# Altium integrated library NSC Amplifier.IntLib: 719 symbols (part 15 of 19)
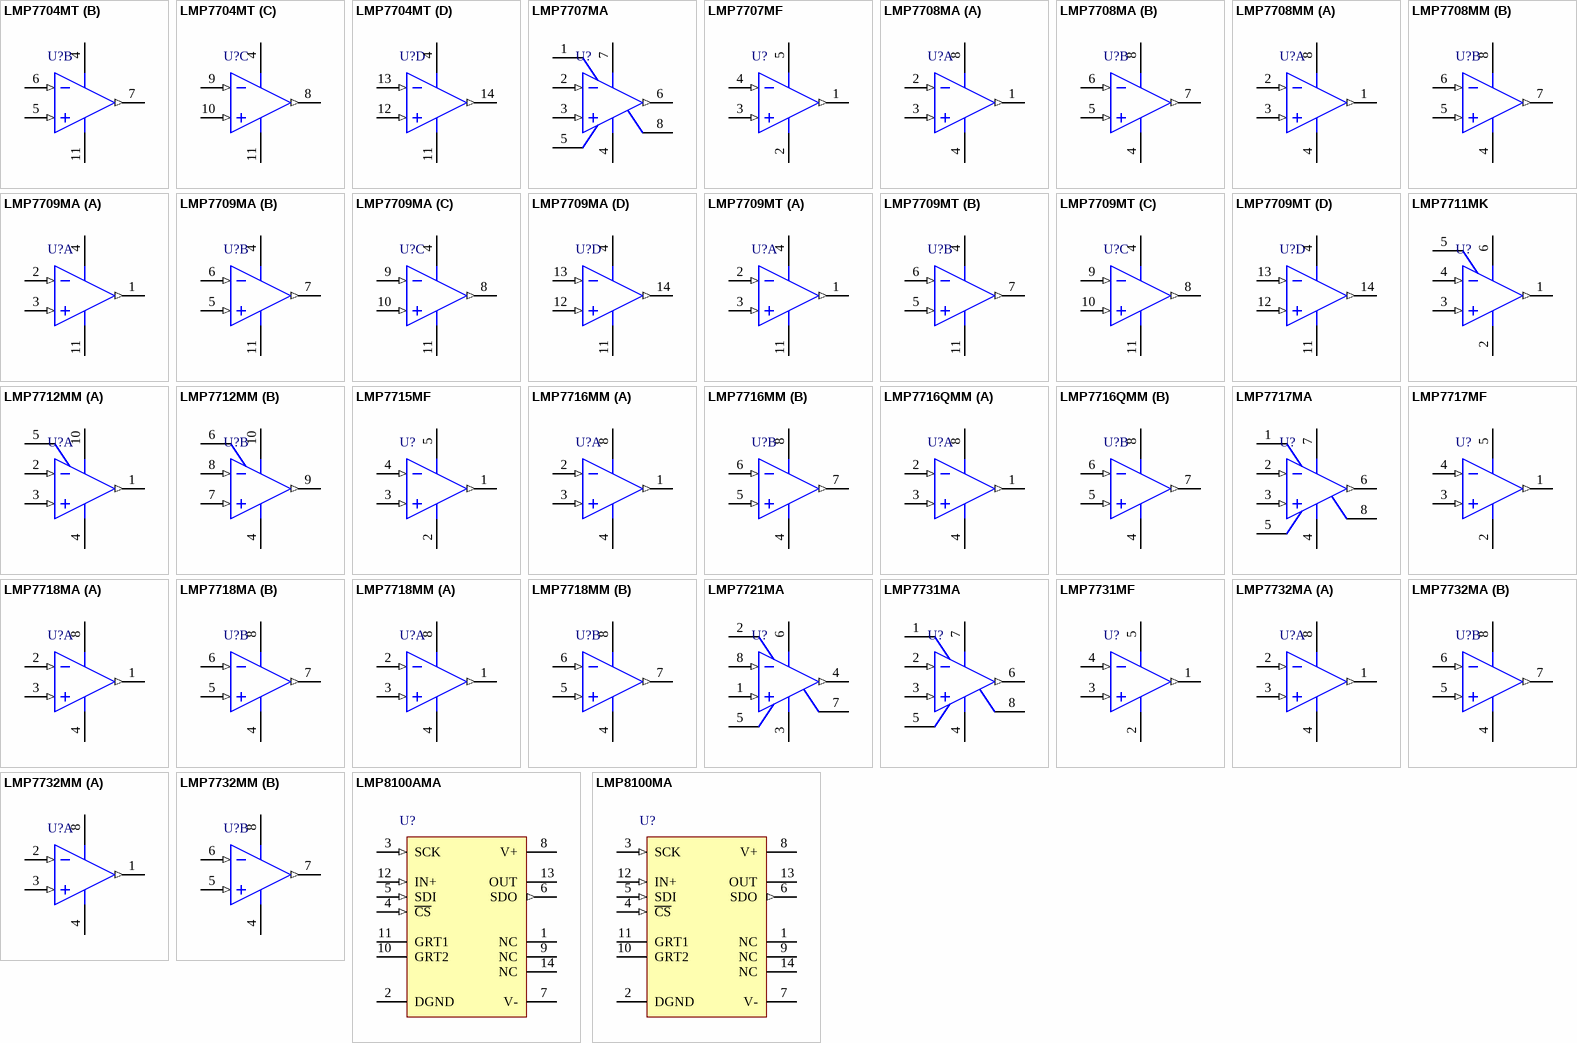
[diagram p52: symbols LMP7704MT to LMP8100MA]

## LMP7707MF
designator U?
Precision, CMOS Input, RRIO, Wide Supply Range Decompensated Amplifier; PartNumber: LMP7707MF; Manufacturer: National Semiconductor; CompType: Amplifiers; PackageTopMarking: AH4A*XTT; Published: 4-Dec-2008; LatestRevisionDate: 13-Jan-2009; LatestRevisionNote: Sim Model Added.; DatasheetVersion: Jul-2008; PackageVersion: revD, Aug-2008; PackageReference: MF05A; Publisher: Altium Limited; PackageDescription: Molded SOT-23, .115 x .063 x .040 in Body, 5 Lead, .0375 in Pitch; RoHS: Y; PinCount: 5; DigiKeyPartNumber: LMP7707MFCT-ND; Code_IPC: SOT23-5; ComponentLink1Description: LMP7707 Datasheet; ComponentLink1URL: http://www.national.com/ds/LM/LMP7707.pdf; ComponentLink2Description: LMP7707 Web Page; ComponentLink2URL: http://www.national.com/pf/LM/LMP7707.html; ComponentLink3Description: MF05A Package Page; ComponentLink3URL: http://www.national.com/packaging/folders/mf05a.html
footprint MF05A_N (SOT23, 5-Leads, Body 2.9x1.6mm, Pitch 0.95mm, Lead Span 2.8mm, IPC Medium Density)
footprint MF05A_L (SOT23, 5-Leads, Body 2.9x1.6mm, Pitch 0.95mm, Lead Span 2.8mm, IPC High Density)
footprint MF05A_M (SOT23, 5-Leads, Body 2.9x1.6mm, Pitch 0.95mm, Lead Span 2.8mm, IPC Low Density)
simulation model LMP7707 (SUBCKT)
pins: 1 OUT (out), 2 V- (power), 3 IN+ (in), 4 IN- (in), 5 V+ (power)

## LMP7708MA
designator U?
Precision, CMOS Input, RRIO, Wide Supply Range Decompensated Amplifier; PartNumber: LMP7708MA; Manufacturer: National Semiconductor; CompType: Amplifiers; PackageTopMarking: NSZXTT*LMP77*08MA; Published: 4-Dec-2008; LatestRevisionDate: 13-Jan-2009; LatestRevisionNote: Sim Model Added.; DatasheetVersion: Jul-2008; PackageVersion: revL, Sep-2006; PackageReference: M08A; Publisher: Altium Limited; PackageDescription: SOIC Narrow, 4.9 x 3.9 x 1.45mm, 8 Lead, 1.27mm Pitch; RoHS: Y; PinCount: 8; Code_JEDEC: MS-012-AA; Code_IPC: SOIC127P600-8; ComponentLink1Description: LMP7708 Datasheet; ComponentLink1URL: http://www.national.com/ds/LM/LMP7708.pdf; ComponentLink2Description: LMP7708 Web Page; ComponentLink2URL: http://www.national.com/pf/LM/LMP7708.html; ComponentLink3Description: M08A Package Page; ComponentLink3URL: http://www.national.com/packaging/folders/m08a.html
footprint M08A_N (SOIC, 8-Leads, Body 4.9x3.9mm, Pitch 1.27mm, IPC Medium Density)
footprint M08A_L (SOIC, 8-Leads, Body 4.9x3.9mm, Pitch 1.27mm, IPC High Density)
footprint M08A_M (SOIC, 8-Leads, Body 4.9x3.9mm, Pitch 1.27mm, IPC Low Density)
simulation model LMP7708 (SUBCKT)
pins on every part: 4 V- (power), 8 V+ (power)
part A pins: 1 OUTA (out), 2 INA- (in), 3 INA+ (in)
part B pins: 5 INB+ (in), 6 INB- (in), 7 OUTB (out)

## LMP7708MM
designator U?
Precision, CMOS Input, RRIO, Wide Supply Range Decompensated Amplifier; PartNumber: LMP7708MM; Manufacturer: National Semiconductor; CompType: Amplifiers; PackageTopMarking: ZXTT*AJ4A; Published: 4-Dec-2008; LatestRevisionDate: 13-Jan-2009; LatestRevisionNote: Sim Model Added.; DatasheetVersion: Jul-2008; PackageVersion: revF, Apr-2008; PackageReference: MUA08A; Publisher: Altium Limited; PackageDescription: MINI SOIC, .118 x .118 x .034in, 8 Lead, .0256in Pitch; RoHS: Y; PinCount: 8; DigiKeyPartNumber: LMP7708MMCT-ND; Code_JEDEC: MO-187-AA; ComponentLink1Description: LMP7708 Datasheet; ComponentLink1URL: http://www.national.com/ds/LM/LMP7708.pdf; ComponentLink2Description: LMP7708 Web Page; ComponentLink2URL: http://www.national.com/pf/LM/LMP7708.html; ComponentLink3Description: MUA08A Package Page; ComponentLink3URL: http://www.national.com/packaging/folders/mua08a.html
footprint MUA08A_N (TSOP, 8-Leads, Body 3x3mm, Pitch 0.65mm, IPC Medium Density)
footprint MUA08A_L (TSOP, 8-Leads, Body 3x3mm, Pitch 0.65mm, IPC High Density)
footprint MUA08A_M (TSOP, 8-Leads, Body 3x3mm, Pitch 0.65mm, IPC Low Density)
simulation model LMP7708 (SUBCKT)
pins on every part: 4 V- (power), 8 V+ (power)
part A pins: 1 OUTA (out), 2 INA- (in), 3 INA+ (in)
part B pins: 5 INB+ (in), 6 INB- (in), 7 OUTB (out)

## LMP7709MA
designator U?
Precision, CMOS Input, RRIO, Wide Supply Range Decompensated Amplifier; PartNumber: LMP7709MA; Manufacturer: National Semiconductor; CompType: Amplifiers; PackageTopMarking: NSUZXYTT*LMP7709*MA; Published: 4-Dec-2008; LatestRevisionDate: 13-Jan-2009; LatestRevisionNote: Sim Model Added.; DatasheetVersion: Jul-2008; PackageVersion: revJ, Jan-1996; PackageReference: M14A; Publisher: Altium Limited; PackageDescription: Molded Package S.O., .150in Wide, 14 Lead; RoHS: Y; PinCount: 14; Code_JEDEC: MS-012AB; Code_IPC: SOIC127P600-14; ComponentLink1Description: LMP7709 Datasheet; ComponentLink1URL: http://www.national.com/ds/LM/LMP7709.pdf; ComponentLink2Description: LMP7709 Web Page; ComponentLink2URL: http://www.national.com/pf/LM/LMP7709.html; ComponentLink3Description: M14A Package Page; ComponentLink3URL: http://www.national.com/packaging/folders/m14a.html
footprint M14A_N (SOIC, 14-Leads, Body 8.6x3.9mm, Pitch 1.27mm, IPC Medium Density)
footprint M14A_L (SOIC, 14-Leads, Body 8.6x3.9mm, Pitch 1.27mm, IPC High Density)
footprint M14A_M (SOIC, 14-Leads, Body 8.6x3.9mm, Pitch 1.27mm, IPC Low Density)
simulation model LMP7709 (SUBCKT)
pins on every part: 4 V+ (power), 11 V- (power)
part A pins: 1 OUTA (out), 2 INA- (in), 3 INA+ (in)
part B pins: 5 INB+ (in), 6 INB- (in), 7 OUTB (out)
part C pins: 8 OUTC (out), 9 INC- (in), 10 INC+ (in)
part D pins: 12 IND+ (in), 13 IND- (in), 14 OUTD (out)

## LMP7709MT
designator U?
Precision, CMOS Input, RRIO, Wide Supply Range Decompensated Amplifier; PartNumber: LMP7709MT; Manufacturer: National Semiconductor; CompType: Amplifiers; PackageTopMarking: NSUZXYTT*LMP77*09MT; Published: 4-Dec-2008; LatestRevisionDate: 13-Jan-2009; LatestRevisionNote: Sim Model Added.; DatasheetVersion: Jul-2008; PackageVersion: revD, Jun-2003; PackageReference: MTC14; Publisher: Altium Limited; PackageDescription: Molded TSSOP, JEDEC, 5 x 4.4 x 0.9mm Body, 14 Lead, 0.65mm Pitch; RoHS: Y; PinCount: 14; DigiKeyPartNumber: LMP7709MT-ND; Code_JEDEC: MO-153-AB-1; ComponentLink1Description: LMP7709 Datasheet; ComponentLink1URL: http://www.national.com/ds/LM/LMP7709.pdf; ComponentLink2Description: LMP7709 Web Page; ComponentLink2URL: http://www.national.com/pf/LM/LMP7709.html; ComponentLink3Description: MTC14 Package Page; ComponentLink3URL: http://www.national.com/packaging/folders/mtc14.html
footprint MTC14_N (TSOP, 14-Leads, Body 5x4.4mm, Pitch 0.65mm, IPC Medium Density)
footprint MTC14_L (TSOP, 14-Leads, Body 5x4.4mm, Pitch 0.65mm, IPC High Density)
footprint MTC14_M (TSOP, 14-Leads, Body 5x4.4mm, Pitch 0.65mm, IPC Low Density)
simulation model LMP7709 (SUBCKT)
pins on every part: 4 V+ (power), 11 V- (power)
part A pins: 1 OUTA (out), 2 INA- (in), 3 INA+ (in)
part B pins: 5 INB+ (in), 6 INB- (in), 7 OUTB (out)
part C pins: 8 OUTC (out), 9 INC- (in), 10 INC+ (in)
part D pins: 12 IND+ (in), 13 IND- (in), 14 OUTD (out)

## LMP7711MK
designator U?
Single Precision, 17 MHz, Low Noise, CMOS Input Amplifier; PartNumber: LMP7711MK; Manufacturer: National Semiconductor; CompType: Amplifiers; PackageTopMarking: AC3A*XTT; Published: 4-Dec-2008; LatestRevisionDate: 13-Jan-2009; LatestRevisionNote: Sim Model Added.; DatasheetVersion: Jul-2008; PackageVersion: revD, Jul-2005; PackageReference: MK06A; Publisher: Altium Limited; PackageDescription: Molded TSOT, 2.97 x 1.65 x 0.87mm Body, 6 Lead, 0.95mm Pitch; RoHS: Y; PinCount: 6; DigiKeyPartNumber: LMP7711MKCT-ND; Code_JEDEC: MO-193-AA; Code_IPC: SOT26A-6; ComponentLink1Description: LMP7711 Datasheet; ComponentLink1URL: http://www.national.com/ds/LM/LMP7711.pdf; ComponentLink2Description: LMP7711 Web Page; ComponentLink2URL: http://www.national.com/pf/LM/LMP7711.html; ComponentLink3Description: MK06A Package Page; ComponentLink3URL: http://www.national.com/packaging/folders/mk06a.html
footprint MK06A_N (SOT23, 6-Leads, Body 3.0x1.7mm, Pitch 0.95mm, Lead Span 2.9mm, IPC Medium Density)
footprint MK06A_L (SOT23, 6-Leads, Body 3.0x1.7mm, Pitch 0.95mm, Lead Span 2.9mm, IPC High Density)
footprint MK06A_M (SOT23, 6-Leads, Body 3.0x1.7mm, Pitch 0.95mm, Lead Span 2.9mm, IPC Low Density)
simulation model LMP7711 (SUBCKT)
pins: 1 OUT (out), 2 V- (power), 3 IN+ (in), 4 IN- (in), 5 EN, 6 V+ (power)

## LMP7712MM
designator U?
Dual Precision, 17 MHz, Low Noise, CMOS Input Amplifier; PartNumber: LMP7712MM; Manufacturer: National Semiconductor; CompType: Amplifiers; PackageTopMarking: ZXTT*AD3A; Published: 4-Dec-2008; LatestRevisionDate: 13-Jan-2009; LatestRevisionNote: Sim Model Added.; DatasheetVersion: Jul-2008; PackageVersion: revB, Jul-2003; PackageReference: MUB10A; Publisher: Altium Limited; PackageDescription: Mini-SO, Molded, .118 x .118 x .034in Body, 10 Lead, .0197in Pitch; RoHS: Y; PinCount: 10; DigiKeyPartNumber: LMP7712MMCT-ND; Code_JEDEC: MO-187-BA; ComponentLink1Description: LMP7712 Datasheet; ComponentLink1URL: http://www.national.com/ds/LM/LMP7712.pdf; ComponentLink2Description: LMP7712 Web Page; ComponentLink2URL: http://www.national.com/pf/LM/LMP7712.html; ComponentLink3Description: MUB10A Package Page; ComponentLink3URL: http://www.national.com/packaging/folders/mub10a.html
footprint MUB10A_N (TSSOP, 10-Leads, Body 3x3mm, Pitch 0.5mm, IPC Medium Density)
footprint MUB10A_L (TSSOP, 10-Leads, Body 3x3mm, Pitch 0.5mm, IPC High Density)
footprint MUB10A_M (TSSOP, 10-Leads, Body 3x3mm, Pitch 0.5mm, IPC Low Density)
simulation model LMP7712 (SUBCKT)
pins on every part: 4 V- (power), 10 V+ (power)
part A pins: 1 OUTA (out), 2 INA- (in), 3 INA+ (in), 5 ENA
part B pins: 6 ENB, 7 INB+ (in), 8 INB- (in), 9 OUTB (out)

## LMP7715MF
designator U?
Single Precision, 17 MHz, Low Noise, CMOS Input Amplifier; PartNumber: LMP7715MF; Manufacturer: National Semiconductor; CompType: Amplifiers; PackageTopMarking: AV3A*XTT; Published: 4-Dec-2008; LatestRevisionDate: 13-Jan-2009; LatestRevisionNote: Sim Model Added.; DatasheetVersion: Aug-2008; PackageVersion: revD, Aug-2008; PackageReference: MF05A; Publisher: Altium Limited; PackageDescription: Molded SOT-23, .115 x .063 x .040 in Body, 5 Lead, .0375 in Pitch; RoHS: Y; PinCount: 5; DigiKeyPartNumber: LMP7715MFCT-ND; Code_IPC: SOT23-5; ComponentLink1Description: LMP7715 Datasheet; ComponentLink1URL: http://www.national.com/ds/LM/LMP7715.pdf; ComponentLink2Description: LMP7715 Web Page; ComponentLink2URL: http://www.national.com/pf/LM/LMP7715.html; ComponentLink3Description: MF05A Package Page; ComponentLink3URL: http://www.national.com/packaging/folders/mf05a.html
footprint MF05A_N (SOT23, 5-Leads, Body 2.9x1.6mm, Pitch 0.95mm, Lead Span 2.8mm, IPC Medium Density)
footprint MF05A_L (SOT23, 5-Leads, Body 2.9x1.6mm, Pitch 0.95mm, Lead Span 2.8mm, IPC High Density)
footprint MF05A_M (SOT23, 5-Leads, Body 2.9x1.6mm, Pitch 0.95mm, Lead Span 2.8mm, IPC Low Density)
simulation model LMP7715 (SUBCKT)
pins: 1 OUT (out), 2 V- (power), 3 IN+ (in), 4 IN- (in), 5 V+ (power)

## LMP7716MM
designator U?
Dual Precision, 17 MHz, Low Noise, CMOS Input Amplifier; PartNumber: LMP7716MM; Manufacturer: National Semiconductor; CompType: Amplifiers; PackageTopMarking: ZXTT*AX3A; Published: 4-Dec-2008; LatestRevisionDate: 13-Jan-2009; LatestRevisionNote: Sim Model Added.; DatasheetVersion: Aug-2008; PackageVersion: revF, Apr-2008; PackageReference: MUA08A; Publisher: Altium Limited; PackageDescription: MINI SOIC, .118 x .118 x .034in, 8 Lead, .0256in Pitch; RoHS: Y; PinCount: 8; DigiKeyPartNumber: LMP7716MMCT-ND; Code_JEDEC: MO-187-AA; ComponentLink1Description: LMP7716 Datasheet; ComponentLink1URL: http://www.national.com/ds/LM/LMP7716.pdf; ComponentLink2Description: LMP7716 Web Page; ComponentLink2URL: http://www.national.com/pf/LM/LMP7716.html; ComponentLink3Description: MUA08A Package Page; ComponentLink3URL: http://www.national.com/packaging/folders/mua08a.html
footprint MUA08A_N (TSOP, 8-Leads, Body 3x3mm, Pitch 0.65mm, IPC Medium Density)
footprint MUA08A_L (TSOP, 8-Leads, Body 3x3mm, Pitch 0.65mm, IPC High Density)
footprint MUA08A_M (TSOP, 8-Leads, Body 3x3mm, Pitch 0.65mm, IPC Low Density)
simulation model LMP7716 (SUBCKT)
pins on every part: 4 V- (power), 8 V+ (power)
part A pins: 1 OUTA (out), 2 INA- (in), 3 INA+ (in)
part B pins: 5 INB+ (in), 6 INB- (in), 7 OUTB (out)

## LMP7716QMM
designator U?
Dual Precision, 17 MHz, Low Noise, CMOS Input Amplifier; PartNumber: LMP7716QMM; Manufacturer: National Semiconductor; CompType: Amplifiers; PackageTopMarking: ZXTT*AR5A; Published: 4-Dec-2008; LatestRevisionDate: 13-Jan-2009; LatestRevisionNote: Sim Model Added.; DatasheetVersion: Aug-2008; PackageVersion: revF, Apr-2008; PackageReference: MUA08A; Publisher: Altium Limited; PackageDescription: MINI SOIC, .118 x .118 x .034in, 8 Lead, .0256in Pitch; RoHS: Y; PinCount: 8; Code_JEDEC: MO-187-AA; ComponentLink1Description: LMP7716 Datasheet; ComponentLink1URL: http://www.national.com/ds/LM/LMP7716.pdf; ComponentLink2Description: LMP7716 Web Page; ComponentLink2URL: http://www.national.com/pf/LM/LMP7716.html; ComponentLink3Description: MUA08A Package Page; ComponentLink3URL: http://www.national.com/packaging/folders/mua08a.html
footprint MUA08A_N (TSOP, 8-Leads, Body 3x3mm, Pitch 0.65mm, IPC Medium Density)
footprint MUA08A_L (TSOP, 8-Leads, Body 3x3mm, Pitch 0.65mm, IPC High Density)
footprint MUA08A_M (TSOP, 8-Leads, Body 3x3mm, Pitch 0.65mm, IPC Low Density)
simulation model LMP7716 (SUBCKT)
pins on every part: 4 V- (power), 8 V+ (power)
part A pins: 1 OUTA (out), 2 INA- (in), 3 INA+ (in)
part B pins: 5 INB+ (in), 6 INB- (in), 7 OUTB (out)

## LMP7717MA
designator U?
88 MHz, Precision, Low Noise, 1.8V CMOS Input, Decompensated Operational Amplifier; PartNumber: LMP7717MA; Manufacturer: National Semiconductor; CompType: Amplifiers; PackageTopMarking: NSZXTT*LMP77*17MA; Published: 4-Dec-2008; LatestRevisionDate: 13-Jan-2009; LatestRevisionNote: Sim Model Added.; DatasheetVersion: Aug-2008; PackageVersion: revL, Sep-2006; PackageReference: M08A; Publisher: Altium Limited; PackageDescription: SOIC Narrow, 4.9 x 3.9 x 1.45mm, 8 Lead, 1.27mm Pitch; RoHS: Y; PinCount: 8; DigiKeyPartNumber: LMP7717MA-ND; Code_JEDEC: MS-012-AA; Code_IPC: SOIC127P600-8; ComponentLink1Description: LMP7717 Datasheet; ComponentLink1URL: http://www.national.com/ds/LM/LMP7717.pdf; ComponentLink2Description: LMP7717 Web Page; ComponentLink2URL: http://www.national.com/pf/LM/LMP7717.html; ComponentLink3Description: M08A Package Page; ComponentLink3URL: http://www.national.com/packaging/folders/m08a.html
footprint M08A_N (SOIC, 8-Leads, Body 4.9x3.9mm, Pitch 1.27mm, IPC Medium Density)
footprint M08A_L (SOIC, 8-Leads, Body 4.9x3.9mm, Pitch 1.27mm, IPC High Density)
footprint M08A_M (SOIC, 8-Leads, Body 4.9x3.9mm, Pitch 1.27mm, IPC Low Density)
simulation model LMP7717 (SUBCKT)
pins: 1 NC, 2 IN- (in), 3 IN+ (in), 4 V- (power), 5 NC, 6 OUT (out), 7 V+ (power), 8 NC

## LMP7717MF
designator U?
88 MHz, Precision, Low Noise, 1.8V CMOS Input, Decompensated Operational Amplifier; PartNumber: LMP7717MF; Manufacturer: National Semiconductor; CompType: Amplifiers; PackageTopMarking: AT4A*XTT; Published: 4-Dec-2008; LatestRevisionDate: 13-Jan-2009; LatestRevisionNote: Sim Model Added.; DatasheetVersion: Aug-2008; PackageVersion: revD, Aug-2008; PackageReference: MF05A; Publisher: Altium Limited; PackageDescription: Molded SOT-23, .115 x .063 x .040 in Body, 5 Lead, .0375 in Pitch; RoHS: Y; PinCount: 5; DigiKeyPartNumber: LMP7717MFCT-ND; Code_IPC: SOT23-5; ComponentLink1Description: LMP7717 Datasheet; ComponentLink1URL: http://www.national.com/ds/LM/LMP7717.pdf; ComponentLink2Description: LMP7717 Web Page; ComponentLink2URL: http://www.national.com/pf/LM/LMP7717.html; ComponentLink3Description: MF05A Package Page; ComponentLink3URL: http://www.national.com/packaging/folders/mf05a.html
footprint MF05A_N (SOT23, 5-Leads, Body 2.9x1.6mm, Pitch 0.95mm, Lead Span 2.8mm, IPC Medium Density)
footprint MF05A_L (SOT23, 5-Leads, Body 2.9x1.6mm, Pitch 0.95mm, Lead Span 2.8mm, IPC High Density)
footprint MF05A_M (SOT23, 5-Leads, Body 2.9x1.6mm, Pitch 0.95mm, Lead Span 2.8mm, IPC Low Density)
simulation model LMP7717 (SUBCKT)
pins: 1 OUT (out), 2 V- (power), 3 IN+ (in), 4 IN- (in), 5 V+ (power)

## LMP7718MA
designator U?
88 MHz, Precision, Low Noise, 1.8V CMOS Input, Decompensated Operational Amplifier; PartNumber: LMP7718MA; Manufacturer: National Semiconductor; CompType: Amplifiers; PackageTopMarking: NSZXTT*LMP77*18MA; Published: 4-Dec-2008; LatestRevisionDate: 13-Jan-2009; LatestRevisionNote: Sim Model Added.; DatasheetVersion: Aug-2008; PackageVersion: revL, Sep-2006; PackageReference: M08A; Publisher: Altium Limited; PackageDescription: SOIC Narrow, 4.9 x 3.9 x 1.45mm, 8 Lead, 1.27mm Pitch; RoHS: Y; PinCount: 8; DigiKeyPartNumber: LMP7718MAX-ND; Code_JEDEC: MS-012-AA; Code_IPC: SOIC127P600-8; ComponentLink1Description: LMP7718 Datasheet; ComponentLink1URL: http://www.national.com/ds/LM/LMP7718.pdf; ComponentLink2Description: LMP7718 Web Page; ComponentLink2URL: http://www.national.com/pf/LM/LMP7718.html; ComponentLink3Description: M08A Package Page; ComponentLink3URL: http://www.national.com/packaging/folders/m08a.html
footprint M08A_N (SOIC, 8-Leads, Body 4.9x3.9mm, Pitch 1.27mm, IPC Medium Density)
footprint M08A_L (SOIC, 8-Leads, Body 4.9x3.9mm, Pitch 1.27mm, IPC High Density)
footprint M08A_M (SOIC, 8-Leads, Body 4.9x3.9mm, Pitch 1.27mm, IPC Low Density)
simulation model LMP7718 (SUBCKT)
pins on every part: 4 V- (power), 8 V+ (power)
part A pins: 1 OUTA (out), 2 INA- (in), 3 INA+ (in)
part B pins: 5 INB+ (in), 6 INB- (in), 7 OUTB (out)

## LMP7718MM
designator U?
88 MHz, Precision, Low Noise, 1.8V CMOS Input, Decompensated Operational Amplifier; PartNumber: LMP7718MM; Manufacturer: National Semiconductor; CompType: Amplifiers; PackageTopMarking: ZXTT*AP4A; Published: 4-Dec-2008; LatestRevisionDate: 13-Jan-2009; LatestRevisionNote: Sim Model Added.; DatasheetVersion: Aug-2008; PackageVersion: revF, Apr-2008; PackageReference: MUA08A; Publisher: Altium Limited; PackageDescription: MINI SOIC, .118 x .118 x .034in, 8 Lead, .0256in Pitch; RoHS: Y; PinCount: 8; DigiKeyPartNumber: LMP7718MMCT-ND; Code_JEDEC: MO-187-AA; ComponentLink1Description: LMP7718 Datasheet; ComponentLink1URL: http://www.national.com/ds/LM/LMP7718.pdf; ComponentLink2Description: LMP7718 Web Page; ComponentLink2URL: http://www.national.com/pf/LM/LMP7718.html; ComponentLink3Description: MUA08A Package Page; ComponentLink3URL: http://www.national.com/packaging/folders/mua08a.html
footprint MUA08A_N (TSOP, 8-Leads, Body 3x3mm, Pitch 0.65mm, IPC Medium Density)
footprint MUA08A_L (TSOP, 8-Leads, Body 3x3mm, Pitch 0.65mm, IPC High Density)
footprint MUA08A_M (TSOP, 8-Leads, Body 3x3mm, Pitch 0.65mm, IPC Low Density)
simulation model LMP7718 (SUBCKT)
pins on every part: 4 V- (power), 8 V+ (power)
part A pins: 1 OUTA (out), 2 INA- (in), 3 INA+ (in)
part B pins: 5 INB+ (in), 6 INB- (in), 7 OUTB (out)

## LMP7721MA
designator U?
3 Femtoampere Input Bias Current Precision Amplifier; PartNumber: LMP7721MA; Manufacturer: National Semiconductor; CompType: Amplifiers; PackageTopMarking: NSZXTT*LMP77*21MA; Published: 4-Dec-2008; DatasheetVersion: Mar-2008; PackageVersion: revL, Sep-2006; PackageReference: M08A; Publisher: Altium Limited; PackageDescription: SOIC Narrow, 4.9 x 3.9 x 1.45mm, 8 Lead, 1.27mm Pitch; RoHS: Y; PinCount: 8; DigiKeyPartNumber: LMP7721MAX-ND; Code_JEDEC: MS-012-AA; Code_IPC: SOIC127P600-8; ComponentLink1Description: LMP7721 Datasheet; ComponentLink1URL: http://www.national.com/ds/LM/LMP7721.pdf; ComponentLink2Description: LMP7721 Web Page; ComponentLink2URL: http://www.national.com/pf/LM/LMP7721.html; ComponentLink3Description: M08A Package Page; ComponentLink3URL: http://www.national.com/packaging/folders/m08a.html
footprint M08A_N (SOIC, 8-Leads, Body 4.9x3.9mm, Pitch 1.27mm, IPC Medium Density)
footprint M08A_L (SOIC, 8-Leads, Body 4.9x3.9mm, Pitch 1.27mm, IPC High Density)
footprint M08A_M (SOIC, 8-Leads, Body 4.9x3.9mm, Pitch 1.27mm, IPC Low Density)
pins: 1 IN+ (in), 2 NC, 3 V- (power), 4 OUT (out), 5 NC, 6 V+ (power), 7 NC, 8 IN- (in)

## LMP7731MA
designator U?
2.9 nV/sqrt(Hz) Low Noise, Precision , RRIO Amplifier; PartNumber: LMP7731MA; Manufacturer: National Semiconductor; CompType: Amplifiers; PackageTopMarking: NSZXTT*LMP77*31MA; Published: 4-Dec-2008; LatestRevisionDate: 13-Jan-2009; LatestRevisionNote: Sim Model Added.; DatasheetVersion: Jun-2008; PackageVersion: revL, Sep-2006; PackageReference: M08A; Publisher: Altium Limited; PackageDescription: SOIC Narrow, 4.9 x 3.9 x 1.45mm, 8 Lead, 1.27mm Pitch; RoHS: Y; PinCount: 8; Code_JEDEC: MS-012-AA; Code_IPC: SOIC127P600-8; ComponentLink1Description: LMP7731 Datasheet; ComponentLink1URL: http://www.national.com/ds/LM/LMP7731.pdf; ComponentLink2Description: LMP7731 Web Page; ComponentLink2URL: http://www.national.com/pf/LM/LMP7731.html; ComponentLink3Description: M08A Package Page; ComponentLink3URL: http://www.national.com/packaging/folders/m08a.html
footprint M08A_N (SOIC, 8-Leads, Body 4.9x3.9mm, Pitch 1.27mm, IPC Medium Density)
footprint M08A_L (SOIC, 8-Leads, Body 4.9x3.9mm, Pitch 1.27mm, IPC High Density)
footprint M08A_M (SOIC, 8-Leads, Body 4.9x3.9mm, Pitch 1.27mm, IPC Low Density)
simulation model LMP7731 (SUBCKT)
pins: 1 NC, 2 IN- (in), 3 IN+ (in), 4 V- (power), 5 NC, 6 OUT (out), 7 V+ (power), 8 NC

## LMP7731MF
designator U?
2.9 nV/sqrt(Hz) Low Noise, Precision , RRIO Amplifier; PartNumber: LMP7731MF; Manufacturer: National Semiconductor; CompType: Amplifiers; PackageTopMarking: AY3A*XTT; Published: 4-Dec-2008; LatestRevisionDate: 13-Jan-2009; LatestRevisionNote: Sim Model Added.; DatasheetVersion: Jun-2008; PackageVersion: revD, Aug-2008; PackageReference: MF05A; Publisher: Altium Limited; PackageDescription: Molded SOT-23, .115 x .063 x .040 in Body, 5 Lead, .0375 in Pitch; RoHS: Y; PinCount: 5; DigiKeyPartNumber: LMP7731MFCT-ND; Code_IPC: SOT23-5; ComponentLink1Description: LMP7731 Datasheet; ComponentLink1URL: http://www.national.com/ds/LM/LMP7731.pdf; ComponentLink2Description: LMP7731 Web Page; ComponentLink2URL: http://www.national.com/pf/LM/LMP7731.html; ComponentLink3Description: MF05A Package Page; ComponentLink3URL: http://www.national.com/packaging/folders/mf05a.html
footprint MF05A_N (SOT23, 5-Leads, Body 2.9x1.6mm, Pitch 0.95mm, Lead Span 2.8mm, IPC Medium Density)
footprint MF05A_L (SOT23, 5-Leads, Body 2.9x1.6mm, Pitch 0.95mm, Lead Span 2.8mm, IPC High Density)
footprint MF05A_M (SOT23, 5-Leads, Body 2.9x1.6mm, Pitch 0.95mm, Lead Span 2.8mm, IPC Low Density)
simulation model LMP7731 (SUBCKT)
pins: 1 OUT (out), 2 V- (power), 3 IN+ (in), 4 IN- (in), 5 V+ (power)

## LMP7732MA
designator U?
2.9nV/sqrt(Hz) Low Noise Precision, RRIO Amplifier; PartNumber: LMP7732MA; Manufacturer: National Semiconductor; CompType: Amplifiers; PackageTopMarking: NSZXTT*LMP77*32MA; Published: 4-Dec-2008; LatestRevisionDate: 13-Jan-2009; LatestRevisionNote: Sim Model Added.; DatasheetVersion: Jun-2008; PackageVersion: revL, Sep-2006; PackageReference: M08A; Publisher: Altium Limited; PackageDescription: SOIC Narrow, 4.9 x 3.9 x 1.45mm, 8 Lead, 1.27mm Pitch; RoHS: Y; PinCount: 8; DigiKeyPartNumber: LMP7732MA-ND; Code_JEDEC: MS-012-AA; Code_IPC: SOIC127P600-8; ComponentLink1Description: LMP7732 Datasheet; ComponentLink1URL: http://www.national.com/ds/LM/LMP7732.pdf; ComponentLink2Description: LMP7732 Web Page; ComponentLink2URL: http://www.national.com/pf/LM/LMP7732.html; ComponentLink3Description: M08A Package Page; ComponentLink3URL: http://www.national.com/packaging/folders/m08a.html
footprint M08A_N (SOIC, 8-Leads, Body 4.9x3.9mm, Pitch 1.27mm, IPC Medium Density)
footprint M08A_L (SOIC, 8-Leads, Body 4.9x3.9mm, Pitch 1.27mm, IPC High Density)
footprint M08A_M (SOIC, 8-Leads, Body 4.9x3.9mm, Pitch 1.27mm, IPC Low Density)
simulation model LMP7732 (SUBCKT)
pins on every part: 4 V- (power), 8 V+ (power)
part A pins: 1 OUTA (out), 2 INA- (in), 3 INA+ (in)
part B pins: 5 INB+ (in), 6 INB- (in), 7 OUTB (out)

## LMP7732MM
designator U?
2.9nV/sqrt(Hz) Low Noise Precision, RRIO Amplifier; PartNumber: LMP7732MM; Manufacturer: National Semiconductor; CompType: Amplifiers; PackageTopMarking: ZXTT*AZ3A; Published: 4-Dec-2008; LatestRevisionDate: 13-Jan-2009; LatestRevisionNote: Sim Model Added.; DatasheetVersion: Jun-2008; PackageVersion: revF, Apr-2008; PackageReference: MUA08A; Publisher: Altium Limited; PackageDescription: MINI SOIC, .118 x .118 x .034in, 8 Lead, .0256in Pitch; RoHS: Y; PinCount: 8; DigiKeyPartNumber: LMP7732MM-ND; Code_JEDEC: MO-187-AA; ComponentLink1Description: LMP7732 Datasheet; ComponentLink1URL: http://www.national.com/ds/LM/LMP7732.pdf; ComponentLink2Description: LMP7732 Web Page; ComponentLink2URL: http://www.national.com/pf/LM/LMP7732.html; ComponentLink3Description: MUA08A Package Page; ComponentLink3URL: http://www.national.com/packaging/folders/mua08a.html
footprint MUA08A_N (TSOP, 8-Leads, Body 3x3mm, Pitch 0.65mm, IPC Medium Density)
footprint MUA08A_L (TSOP, 8-Leads, Body 3x3mm, Pitch 0.65mm, IPC High Density)
footprint MUA08A_M (TSOP, 8-Leads, Body 3x3mm, Pitch 0.65mm, IPC Low Density)
simulation model LMP7732 (SUBCKT)
pins on every part: 4 V- (power), 8 V+ (power)
part A pins: 1 OUTA (out), 2 INA- (in), 3 INA+ (in)
part B pins: 5 INB+ (in), 6 INB- (in), 7 OUTB (out)

## LMP8100AMA
designator U?
Programmable Gain Amplifier; PartNumber: LMP8100AMA; Manufacturer: National Semiconductor; CompType: Amplifiers; PackageTopMarking: NSUZXYTT*LMP8100*AMA; Published: 4-Dec-2008; DatasheetVersion: Apr-2008; PackageVersion: revJ, Jan-1996; PackageReference: M14A; Publisher: Altium Limited; PackageDescription: Molded Package S.O., .150in Wide, 14 Lead; RoHS: Y; PinCount: 14; DigiKeyPartNumber: LMP8100AMA-ND; Code_JEDEC: MS-012AB; Code_IPC: SOIC127P600-14; ComponentLink1Description: LMP8100 Datasheet; ComponentLink1URL: http://www.national.com/ds/LM/LMP8100.pdf; ComponentLink2Description: LMP8100 Web Page; ComponentLink2URL: http://www.national.com/pf/LM/LMP8100.html; ComponentLink3Description: M14A Package Page; ComponentLink3URL: http://www.national.com/packaging/folders/m14a.html
footprint M14A_N (SOIC, 14-Leads, Body 8.6x3.9mm, Pitch 1.27mm, IPC Medium Density)
footprint M14A_L (SOIC, 14-Leads, Body 8.6x3.9mm, Pitch 1.27mm, IPC High Density)
footprint M14A_M (SOIC, 14-Leads, Body 8.6x3.9mm, Pitch 1.27mm, IPC Low Density)
pins: 1 NC, 2 DGND, 3 SCK (in), 4 ~{CS} (in), 5 SDI (in), 6 SDO (out), 7 V- (power), 8 V+ (power), 9 NC, 10 GRT2, 11 GRT1, 12 IN+ (in), 13 OUT, 14 NC

## LMP8100MA
designator U?
Programmable Gain Amplifier; PartNumber: LMP8100MA; Manufacturer: National Semiconductor; CompType: Amplifiers; PackageTopMarking: NSUZXYTT*LMP8100*MA; Published: 4-Dec-2008; DatasheetVersion: Apr-2008; PackageVersion: revJ, Jan-1996; PackageReference: M14A; Publisher: Altium Limited; PackageDescription: Molded Package S.O., .150in Wide, 14 Lead; RoHS: Y; PinCount: 14; DigiKeyPartNumber: LMP8100MA-ND; Code_JEDEC: MS-012AB; Code_IPC: SOIC127P600-14; ComponentLink1Description: LMP8100 Datasheet; ComponentLink1URL: http://www.national.com/ds/LM/LMP8100.pdf; ComponentLink2Description: LMP8100 Web Page; ComponentLink2URL: http://www.national.com/pf/LM/LMP8100.html; ComponentLink3Description: M14A Package Page; ComponentLink3URL: http://www.national.com/packaging/folders/m14a.html
footprint M14A_N (SOIC, 14-Leads, Body 8.6x3.9mm, Pitch 1.27mm, IPC Medium Density)
footprint M14A_L (SOIC, 14-Leads, Body 8.6x3.9mm, Pitch 1.27mm, IPC High Density)
footprint M14A_M (SOIC, 14-Leads, Body 8.6x3.9mm, Pitch 1.27mm, IPC Low Density)
pins: 1 NC, 2 DGND, 3 SCK (in), 4 ~{CS} (in), 5 SDI (in), 6 SDO (out), 7 V- (power), 8 V+ (power), 9 NC, 10 GRT2, 11 GRT1, 12 IN+ (in), 13 OUT, 14 NC

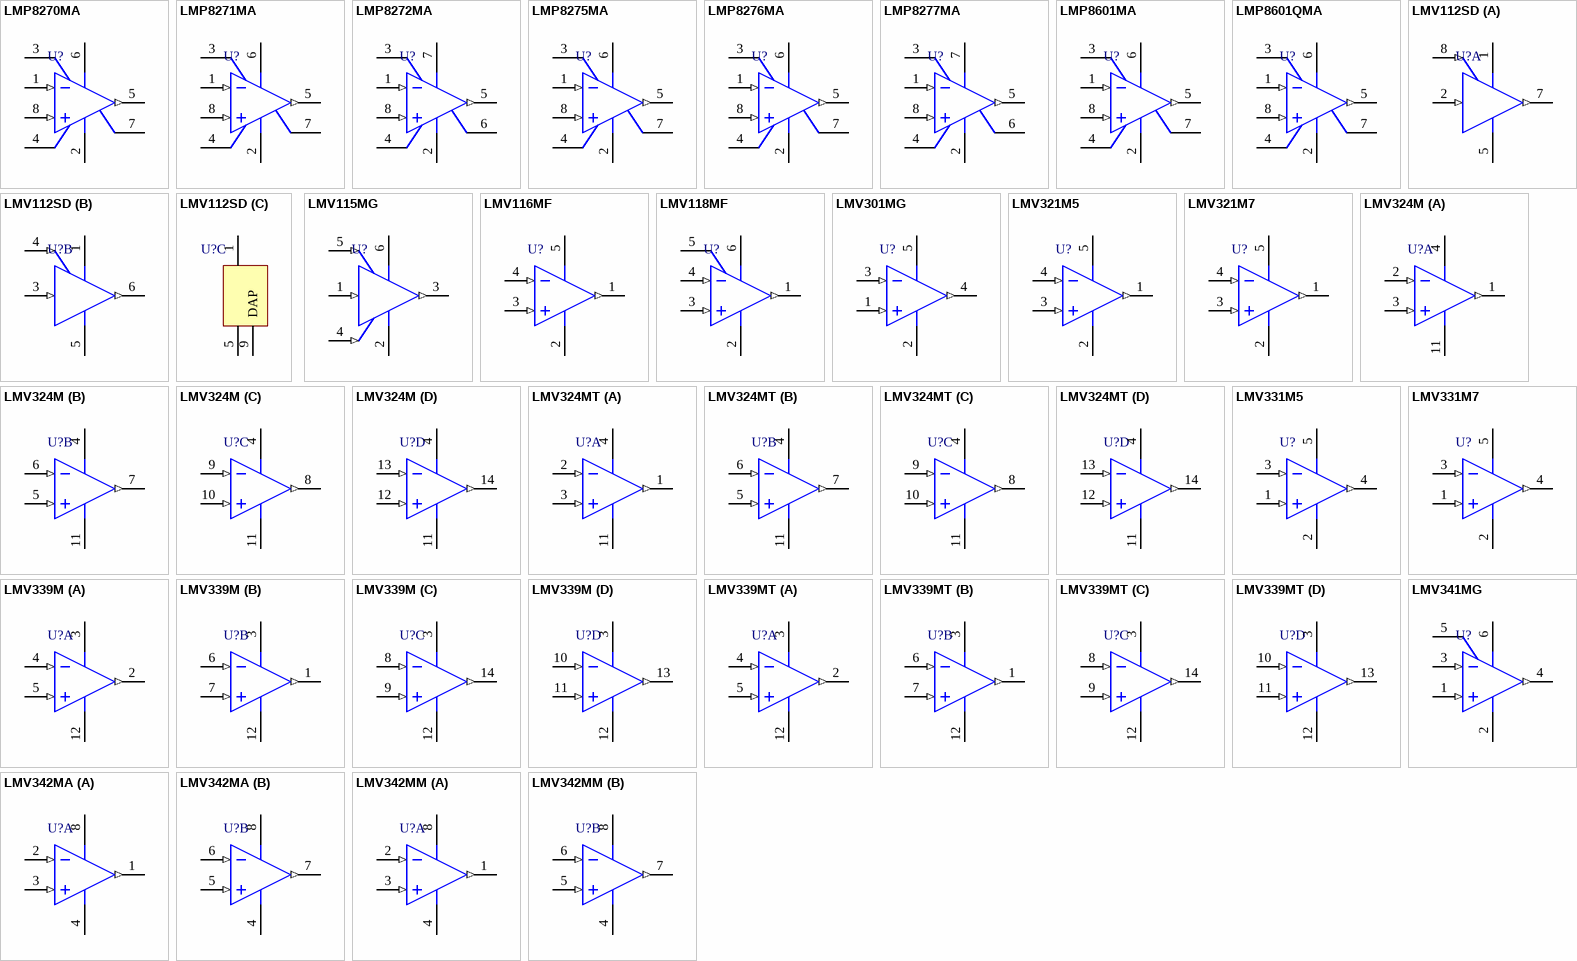
[diagram p32: symbols LMP8270MA to LMV342MM]

## LMP8270MA
designator U?
High Common Mode, Gain of 20, Precision Voltage Difference Amplifier; PartNumber: LMP8270MA; Manufacturer: National Semiconductor; CompType: Amplifiers; PackageTopMarking: NSZXTT*LMP82*70MA; Published: 4-Dec-2008; LatestRevisionDate: 13-Jan-2009; LatestRevisionNote: Sim Model Added.; DatasheetVersion: Jan-2007; PackageVersion: revL, Sep-2006; PackageReference: M08A; Publisher: Altium Limited; PackageDescription: SOIC Narrow, 4.9 x 3.9 x 1.45mm, 8 Lead, 1.27mm Pitch; RoHS: Y; PinCount: 8; DigiKeyPartNumber: LMP8270MA-ND; Code_JEDEC: MS-012-AA; Code_IPC: SOIC127P600-8; ComponentLink1Description: LMP8270 Datasheet; ComponentLink1URL: http://www.national.com/ds/LM/LMP8270.pdf; ComponentLink2Description: LMP8270 Web Page; ComponentLink2URL: http://www.national.com/pf/LM/LMP8270.html; ComponentLink3Description: M08A Package Page; ComponentLink3URL: http://www.national.com/packaging/folders/m08a.html
footprint M08A_N (SOIC, 8-Leads, Body 4.9x3.9mm, Pitch 1.27mm, IPC Medium Density)
footprint M08A_L (SOIC, 8-Leads, Body 4.9x3.9mm, Pitch 1.27mm, IPC High Density)
footprint M08A_M (SOIC, 8-Leads, Body 4.9x3.9mm, Pitch 1.27mm, IPC Low Density)
simulation model LMP8270 (SUBCKT)
pins: 1 IN- (in), 2 GND (power), 3 A1, 4 A2, 5 OUT (out), 6 VS (power), 7 NC, 8 IN+ (in)

## LMP8271MA
designator U?
High Common Mode, Gain of 20, Bidirectional Precision Voltage Difference Amplifier; PartNumber: LMP8271MA; Manufacturer: National Semiconductor; CompType: Amplifiers; PackageTopMarking: NSZXTT*LMP82*71MA; Published: 4-Dec-2008; LatestRevisionDate: 13-Jan-2009; LatestRevisionNote: Sim Model Added.; DatasheetVersion: Jan-2007; PackageVersion: revL, Sep-2006; PackageReference: M08A; Publisher: Altium Limited; PackageDescription: SOIC Narrow, 4.9 x 3.9 x 1.45mm, 8 Lead, 1.27mm Pitch; RoHS: Y; PinCount: 8; DigiKeyPartNumber: LMP8271MA-ND; Code_JEDEC: MS-012-AA; Code_IPC: SOIC127P600-8; ComponentLink1Description: LMP8271 Datasheet; ComponentLink1URL: http://www.national.com/ds/LM/LMP8271.pdf; ComponentLink2Description: LMP8271 Web Page; ComponentLink2URL: http://www.national.com/pf/LM/LMP8271.html; ComponentLink3Description: M08A Package Page; ComponentLink3URL: http://www.national.com/packaging/folders/m08a.html
footprint M08A_N (SOIC, 8-Leads, Body 4.9x3.9mm, Pitch 1.27mm, IPC Medium Density)
footprint M08A_L (SOIC, 8-Leads, Body 4.9x3.9mm, Pitch 1.27mm, IPC High Density)
footprint M08A_M (SOIC, 8-Leads, Body 4.9x3.9mm, Pitch 1.27mm, IPC Low Density)
simulation model LMP8271 (SUBCKT)
pins: 1 IN- (in), 2 GND (power), 3 A1, 4 A2, 5 OUT (out), 6 VS (power), 7 OFS, 8 IN+ (in)

## LMP8272MA
designator U?
High Common Mode, Gain of 14, Precision Voltage Difference Amplifier; PartNumber: LMP8272MA; Manufacturer: National Semiconductor; CompType: Amplifiers; PackageTopMarking: NSZXTT*LMP82*72MA; Published: 4-Dec-2008; LatestRevisionDate: 13-Jan-2009; LatestRevisionNote: Sim Model Added.; DatasheetVersion: Jan-2007; PackageVersion: revL, Sep-2006; PackageReference: M08A; Publisher: Altium Limited; PackageDescription: SOIC Narrow, 4.9 x 3.9 x 1.45mm, 8 Lead, 1.27mm Pitch; RoHS: Y; PinCount: 8; DigiKeyPartNumber: LMP8272MA-ND; Code_JEDEC: MS-012-AA; Code_IPC: SOIC127P600-8; ComponentLink1Description: LMP8272 Datasheet; ComponentLink1URL: http://www.national.com/ds/LM/LMP8272.pdf; ComponentLink2Description: LMP8272 Web Page; ComponentLink2URL: http://www.national.com/pf/LM/LMP8272.html; ComponentLink3Description: M08A Package Page; ComponentLink3URL: http://www.national.com/packaging/folders/m08a.html
footprint M08A_N (SOIC, 8-Leads, Body 4.9x3.9mm, Pitch 1.27mm, IPC Medium Density)
footprint M08A_L (SOIC, 8-Leads, Body 4.9x3.9mm, Pitch 1.27mm, IPC High Density)
footprint M08A_M (SOIC, 8-Leads, Body 4.9x3.9mm, Pitch 1.27mm, IPC Low Density)
simulation model LMP8272 (SUBCKT)
pins: 1 IN- (in), 2 GND (power), 3 A1, 4 A2, 5 OUT (out), 6 NC, 7 VS (power), 8 IN+ (in)

## LMP8275MA
designator U?
High Common Mode, Gain of 20, Precision Voltage Difference Amplifier; PartNumber: LMP8275MA; Manufacturer: National Semiconductor; CompType: Amplifiers; PackageTopMarking: NSZXTT*LMP82*75MA; Published: 4-Dec-2008; LatestRevisionDate: 13-Jan-2009; LatestRevisionNote: Sim Model Added.; DatasheetVersion: Jan-2007; PackageVersion: revL, Sep-2006; PackageReference: M08A; Publisher: Altium Limited; PackageDescription: SOIC Narrow, 4.9 x 3.9 x 1.45mm, 8 Lead, 1.27mm Pitch; RoHS: Y; PinCount: 8; DigiKeyPartNumber: LMP8275MA-ND; Code_JEDEC: MS-012-AA; Code_IPC: SOIC127P600-8; ComponentLink1Description: LMP8275 Datasheet; ComponentLink1URL: http://www.national.com/ds/LM/LMP8275.pdf; ComponentLink2Description: LMP8275 Web Page; ComponentLink2URL: http://www.national.com/pf/LM/LMP8275.html; ComponentLink3Description: M08A Package Page; ComponentLink3URL: http://www.national.com/packaging/folders/m08a.html
footprint M08A_N (SOIC, 8-Leads, Body 4.9x3.9mm, Pitch 1.27mm, IPC Medium Density)
footprint M08A_L (SOIC, 8-Leads, Body 4.9x3.9mm, Pitch 1.27mm, IPC High Density)
footprint M08A_M (SOIC, 8-Leads, Body 4.9x3.9mm, Pitch 1.27mm, IPC Low Density)
simulation model LMP8275 (SUBCKT)
pins: 1 IN- (in), 2 GND (power), 3 A1, 4 A2, 5 OUT (out), 6 VS (power), 7 NC, 8 IN+ (in)

## LMP8276MA
designator U?
High Common Mode, Gain of 20, Bidirectional Precision Voltage Difference Amplifier; PartNumber: LMP8276MA; Manufacturer: National Semiconductor; CompType: Amplifiers; PackageTopMarking: NSZXTT*LMP82*76MA; Published: 4-Dec-2008; LatestRevisionDate: 13-Jan-2009; LatestRevisionNote: Sim Model Added.; DatasheetVersion: Jan-2007; PackageVersion: revL, Sep-2006; PackageReference: M08A; Publisher: Altium Limited; PackageDescription: SOIC Narrow, 4.9 x 3.9 x 1.45mm, 8 Lead, 1.27mm Pitch; RoHS: Y; PinCount: 8; DigiKeyPartNumber: LMP8276MA-ND; Code_JEDEC: MS-012-AA; Code_IPC: SOIC127P600-8; ComponentLink1Description: LMP8276 Datasheet; ComponentLink1URL: http://www.national.com/ds/LM/LMP8276.pdf; ComponentLink2Description: LMP8276 Web Page; ComponentLink2URL: http://www.national.com/pf/LM/LMP8276.html; ComponentLink3Description: M08A Package Page; ComponentLink3URL: http://www.national.com/packaging/folders/m08a.html
footprint M08A_N (SOIC, 8-Leads, Body 4.9x3.9mm, Pitch 1.27mm, IPC Medium Density)
footprint M08A_L (SOIC, 8-Leads, Body 4.9x3.9mm, Pitch 1.27mm, IPC High Density)
footprint M08A_M (SOIC, 8-Leads, Body 4.9x3.9mm, Pitch 1.27mm, IPC Low Density)
simulation model LMP8276 (SUBCKT)
pins: 1 IN- (in), 2 GND (power), 3 A1, 4 A2, 5 OUT (out), 6 VS (power), 7 OFS, 8 IN+ (in)

## LMP8277MA
designator U?
High Common Mode, Gain of 14, Precision Voltage Difference Amplifier; PartNumber: LMP8277MA; Manufacturer: National Semiconductor; CompType: Amplifiers; PackageTopMarking: NSZXTT*LMP82*77MA; Published: 4-Dec-2008; LatestRevisionDate: 13-Jan-2009; LatestRevisionNote: Sim Model Added.; DatasheetVersion: Jan-2007; PackageVersion: revL, Sep-2006; PackageReference: M08A; Publisher: Altium Limited; PackageDescription: SOIC Narrow, 4.9 x 3.9 x 1.45mm, 8 Lead, 1.27mm Pitch; RoHS: Y; PinCount: 8; DigiKeyPartNumber: LMP8277MA-ND; Code_JEDEC: MS-012-AA; Code_IPC: SOIC127P600-8; ComponentLink1Description: LMP8277 Datasheet; ComponentLink1URL: http://www.national.com/ds/LM/LMP8277.pdf; ComponentLink2Description: LMP8277 Web Page; ComponentLink2URL: http://www.national.com/pf/LM/LMP8277.html; ComponentLink3Description: M08A Package Page; ComponentLink3URL: http://www.national.com/packaging/folders/m08a.html
footprint M08A_N (SOIC, 8-Leads, Body 4.9x3.9mm, Pitch 1.27mm, IPC Medium Density)
footprint M08A_L (SOIC, 8-Leads, Body 4.9x3.9mm, Pitch 1.27mm, IPC High Density)
footprint M08A_M (SOIC, 8-Leads, Body 4.9x3.9mm, Pitch 1.27mm, IPC Low Density)
simulation model LMP8277 (SUBCKT)
pins: 1 IN- (in), 2 GND (power), 3 A1, 4 A2, 5 OUT (out), 6 NC, 7 VS (power), 8 IN+ (in)

## LMP8601MA
designator U?
60V Commom Mode, Bidirectional Precision Current Sensing Amplifier; PartNumber: LMP8601; Manufacturer: National Semiconductor; CompType: Amplifiers; PackageTopMarking: NSZXTT*LMP86*01MA; Published: 4-Dec-2008; DatasheetVersion: Oct-2008; PackageVersion: revL, Sep-2006; PackageReference: M08A; Publisher: Altium Limited; PackageDescription: SOIC Narrow, 4.9 x 3.9 x 1.45mm, 8 Lead, 1.27mm Pitch; RoHS: Y; PinCount: 8; DigiKeyPartNumber: LMP8601MAX-ND; Code_JEDEC: MS-012-AA; Code_IPC: SOIC127P600-8; ComponentLink1Description: LMP8601 Datasheet; ComponentLink1URL: http://www.national.com/ds/LM/LMP8601.pdf; ComponentLink2Description: LMP8601 Web Page; ComponentLink2URL: http://www.national.com/pf/LM/LMP8601.html; ComponentLink3Description: M08A Package Page; ComponentLink3URL: http://www.national.com/packaging/folders/m08a.html
footprint M08A_N (SOIC, 8-Leads, Body 4.9x3.9mm, Pitch 1.27mm, IPC Medium Density)
footprint M08A_L (SOIC, 8-Leads, Body 4.9x3.9mm, Pitch 1.27mm, IPC High Density)
footprint M08A_M (SOIC, 8-Leads, Body 4.9x3.9mm, Pitch 1.27mm, IPC Low Density)
pins: 1 IN- (in), 2 GND (power), 3 A1, 4 A2, 5 OUT (out), 6 VS (power), 7 OFS, 8 IN+ (in)

## LMP8601QMA
designator U?
60V Common Mode, Bidirectional Precision Current Sensing Amplifier; PartNumber: LMP8601Q; Manufacturer: National Semiconductor; CompType: Amplifiers; PackageTopMarking: NSZXTT*LMP86*01QMA; Published: 4-Dec-2008; DatasheetVersion: Oct-2008; PackageVersion: revL, Sep-2006; PackageReference: M08A; Publisher: Altium Limited; PackageDescription: SOIC Narrow, 4.9 x 3.9 x 1.45mm, 8 Lead, 1.27mm Pitch; RoHS: Y; PinCount: 8; DigiKeyPartNumber: LMP8601QMAX-ND; Code_JEDEC: MS-012-AA; Code_IPC: SOIC127P600-8; ComponentLink1Description: LMP8601Q Datasheet; ComponentLink1URL: http://www.national.com/ds/LM/LMP8601.pdf; ComponentLink2Description: LMP8601Q Web Page; ComponentLink2URL: http://www.national.com/pf/LM/LMP8601Q.html; ComponentLink3Description: M08A Package Page; ComponentLink3URL: http://www.national.com/packaging/folders/m08a.html
footprint M08A_N (SOIC, 8-Leads, Body 4.9x3.9mm, Pitch 1.27mm, IPC Medium Density)
footprint M08A_L (SOIC, 8-Leads, Body 4.9x3.9mm, Pitch 1.27mm, IPC High Density)
footprint M08A_M (SOIC, 8-Leads, Body 4.9x3.9mm, Pitch 1.27mm, IPC Low Density)
pins: 1 IN- (in), 2 GND (power), 3 A1, 4 A2, 5 OUT (out), 6 VS (power), 7 OFS, 8 IN+ (in)

## LMV112SD
designator U?
40 MHz Dual Clock Buffer; PartNumber: LMV112SD; Manufacturer: National Semiconductor; CompType: Amplifiers; PackageTopMarking: ZXYTT*112SD; Published: 4-Dec-2008; DatasheetVersion: Jun-2005; PackageVersion: revA, Aug-2003; PackageReference: SDA08A; Publisher: Altium Limited; PackageDescription: LLP, Plastic, Dual, 3 x 3 x 0.8mm Body, 8 Lead, 0.5mm Pitch, No Pullback; RoHS: Y; PinCount: 8; DigiKeyPartNumber: LMV112SDCT-ND; ComponentLink1Description: LMV112 Datasheet; ComponentLink1URL: http://www.national.com/ds/LM/LMV112.pdf; ComponentLink2Description: LMV112 Web Page; ComponentLink2URL: http://www.national.com/pf/LM/LMV112.html; ComponentLink3Description: SDA08A Package Page; ComponentLink3URL: http://www.national.com/packaging/folders/sda08a.html
footprint SDA08A (SON, 8-Leads, Body 3x3mm, Pitch 0.5mm, NSC Recommended)
pins on every part: 1 VDD (power), 5 VSS (power)
part A pins: 2 IN1 (in), 7 OUT1 (out), 8 EN1 (in)
part B pins: 3 IN2 (in), 4 EN2 (in), 6 OUT2 (out)
part C pins: 9 DAP

## LMV115MG
designator U?
GSM Baseband 30MHz 2.8V Oscillator Buffer; PartNumber: LMV115MG; Manufacturer: National Semiconductor; CompType: Amplifiers; PackageTopMarking: B04*XTT; Published: 4-Dec-2008; DatasheetVersion: Dec-2003; PackageVersion: revB, Jun-2007; PackageReference: MAA06A; Publisher: Altium Limited; PackageDescription: Molded SC-70, 2 x 1.25 x .9mm, 6 Lead, 0.65mm Pitch; RoHS: Y; PinCount: 6; DigiKeyPartNumber: LMV115MGCT-ND; ComponentLink1Description: LMV115 Datasheet; ComponentLink1URL: http://www.national.com/ds/LM/LMV115.pdf; ComponentLink2Description: LMV115 Web Page; ComponentLink2URL: http://www.national.com/pf/LM/LMV115.html; ComponentLink3Description: MAA06A Package Page; ComponentLink3URL: http://www.national.com/packaging/folders/maa06a.html
footprint MAA06A_N (SOT363, 6-Leads, Body 2x1.3mm, Pitch 0.65mm, Lead Span 2.1mm, IPC Medium Density)
footprint MAA06A_L (SOT363, 6-Leads, Body 2x1.3mm, Pitch 0.65mm, Lead Span 2.1mm, IPC High Density)
footprint MAA06A_M (SOT363, 6-Leads, Body 2x1.3mm, Pitch 0.65mm, Lead Span 2.1mm, IPC Low Density)
pins: 1 IN (in), 2 GND (power), 3 OUT (out), 4 OSC (in), 5 SHDN (in), 6 VDD (power)

## LMV116MF
designator U?
Low Voltage, 45MHz, Rail-to-Rail Output Operational Amplifiers with Shutdown Option; PartNumber: LMV116MF; Manufacturer: National Semiconductor; PackageTopMarking: AC1A*XTT; Published: 4-Dec-2008; DatasheetVersion: Oct-2003; PackageVersion: revD, Aug-2008; PackageReference: MF05A; Publisher: Altium Limited; PackageDescription: Molded SOT-23, .115 x .063 x .040 in Body, 5 Lead, .0375 in Pitch; CompType: Amplifiers; RoHS: O; PinCount: 5; DigiKeyPartNumber: LMV116MFCT-ND; Code_IPC: SOT23-5; ComponentLink1Description: LMV116 Datasheet; ComponentLink1URL: http://www.national.com/ds/LM/LMV116.pdf; ComponentLink2Description: LMV116 Web Page; ComponentLink2URL: http://www.national.com/pf/LM/LMV116.html; ComponentLink3Description: MF05A Package Page; ComponentLink3URL: http://www.national.com/packaging/folders/mf05a.html
footprint MF05A_N (SOT23, 5-Leads, Body 2.9x1.6mm, Pitch 0.95mm, Lead Span 2.8mm, IPC Medium Density)
footprint MF05A_L (SOT23, 5-Leads, Body 2.9x1.6mm, Pitch 0.95mm, Lead Span 2.8mm, IPC High Density)
footprint MF05A_M (SOT23, 5-Leads, Body 2.9x1.6mm, Pitch 0.95mm, Lead Span 2.8mm, IPC Low Density)
pins: 1 OUT (out), 2 V- (power), 3 IN+ (in), 4 IN- (in), 5 V+ (power)

## LMV118MF
designator U?
Low Voltage, 45MHz, Rail-to-Rail Output Operational Amplifiers with Shutdown Option; PartNumber: LMV118MF; Manufacturer: National Semiconductor; PackageTopMarking: AD1A*XTT; Published: 4-Dec-2008; DatasheetVersion: Oct-2003; PackageVersion: revC, Sep-2005; PackageReference: MF06A; Publisher: Altium Limited; PackageDescription: Molded SOT-23, .115 x .063 x .040in Body, 6 Lead, .0375in in Pitch; CompType: Amplifiers; RoHS: Y; PinCount: 6; DigiKeyPartNumber: LMV118MFCT-ND; Code_JEDEC: MO-178-AB; Code_IPC: SOT26A-6; ComponentLink1Description: LMV118 Datasheet; ComponentLink1URL: http://www.national.com/ds/LM/LMV118.pdf; ComponentLink2Description: LMV118 Web Page; ComponentLink2URL: http://www.national.com/pf/LM/LMV118.html; ComponentLink3Description: MF06A Package Page; ComponentLink3URL: http://www.national.com/packaging/folders/mf06a.html
footprint MF06A_N (SOT23, 6-Leads, Body 2.9x1.6mm, Pitch 0.95mm, Lead Span 2.8mm, IPC Medium Density)
footprint MF06A_L (SOT23, 6-Leads, Body 2.9x1.6mm, Pitch 0.95mm, Lead Span 2.8mm, IPC High Density)
footprint MF06A_M (SOT23, 6-Leads, Body 2.9x1.6mm, Pitch 0.95mm, Lead Span 2.8mm, IPC Low Density)
pins: 1 OUT (out), 2 V- (power), 3 IN+ (in), 4 IN- (in), 5 SD, 6 V+ (power)

## LMV301MG
designator U?
Low Input Bias Current, 1.8V Op Amp w/ Rail-to-Rail Output; PartNumber: LMV301MG; Manufacturer: National Semiconductor; CompType: Amplifiers; PackageTopMarking: A48*XTT; Published: 4-Dec-2008; DatasheetVersion: Mar-2001; PackageVersion: revD, Jun-2007; PackageReference: MAA05A; Publisher: Altium Limited; PackageDescription: Molded SC-70, 2 x 1.25 x .9mm, 5 Lead, 0.65mm Pitch; RoHS: Y; PinCount: 5; DigiKeyPartNumber: LMV301MGCT-ND; Code_JEITA: SC-88A; Code_JEDEC: MO-203-AA; Code_IPC: SOT353-5; ComponentLink1Description: LMV301 Datasheet; ComponentLink1URL: http://www.national.com/ds/LM/LMV301.pdf; ComponentLink2Description: LMV301 Web Page; ComponentLink2URL: http://www.national.com/pf/LM/LMV301.html; ComponentLink3Description: MAA05A Package Page; ComponentLink3URL: http://www.national.com/packaging/folders/maa05a.html
footprint MAA05A_N (SOT353, 5-Leads, Body 2x1.3mm, Pitch 0.65mm, Lead Span 2.1mm, IPC Medium Density)
footprint MAA05A_L (SOT353, 5-Leads, Body 2x1.3mm, Pitch 0.65mm, Lead Span 2.1mm, IPC High Density)
footprint MAA05A_M (SOT353, 5-Leads, Body 2x1.3mm, Pitch 0.65mm, Lead Span 2.1mm, IPC Low Density)
pins: 1 IN+ (in), 2 V- (power), 3 IN- (in), 4 OUT (out), 5 V+ (power)

## LMV321M5
designator U?
General Purpose, Low Voltage, Rail-to-Rail Output Operational Amplifiers; PartNumber: LMV321M5; Manufacturer: National Semiconductor; PackageTopMarking: A13*XTT; Published: 4-Dec-2008; LatestRevisionDate: 13-Jan-2009; LatestRevisionNote: Sim Model Added.; DatasheetVersion: Oct-2007; PackageVersion: revD, Aug-2008; PackageReference: MF05A; Publisher: Altium Limited; PackageDescription: Molded SOT-23, .115 x .063 x .040 in Body, 5 Lead, .0375 in Pitch; CompType: Amplifiers; RoHS: O; PinCount: 5; DigiKeyPartNumber: LMV321M5CT-ND; Code_IPC: SOT23-5; ComponentLink1Description: LMV321 Datasheet; ComponentLink1URL: http://www.national.com/ds/LM/LMV321.pdf; ComponentLink2Description: LMV321 Web Page; ComponentLink2URL: http://www.national.com/pf/LM/LMV321.html; ComponentLink3Description: MF05A Package Page; ComponentLink3URL: http://www.national.com/packaging/folders/mf05a.html
footprint MF05A_N (SOT23, 5-Leads, Body 2.9x1.6mm, Pitch 0.95mm, Lead Span 2.8mm, IPC Medium Density)
footprint MF05A_L (SOT23, 5-Leads, Body 2.9x1.6mm, Pitch 0.95mm, Lead Span 2.8mm, IPC High Density)
footprint MF05A_M (SOT23, 5-Leads, Body 2.9x1.6mm, Pitch 0.95mm, Lead Span 2.8mm, IPC Low Density)
simulation model LMV321 (SUBCKT)
pins: 1 OUT (out), 2 V- (power), 3 IN+ (in), 4 IN- (in), 5 V+ (power)

## LMV321M7
designator U?
General Purpose, Low Voltage, Rail-to-Rail Output Operational Amplifiers; PartNumber: LMV321M7; Manufacturer: National Semiconductor; PackageTopMarking: A12*XTT; Published: 4-Dec-2008; LatestRevisionDate: 13-Jan-2009; LatestRevisionNote: Sim Model Added.; DatasheetVersion: Oct-2007; PackageVersion: revD, Jun-2007; PackageReference: MAA05A; Publisher: Altium Limited; PackageDescription: Molded SC-70, 2 x 1.25 x .9mm, 5 Lead, 0.65mm Pitch; CompType: Amplifiers; RoHS: O; PinCount: 5; DigiKeyPartNumber: LMV321M7CT-ND; Code_JEITA: SC-88A; Code_JEDEC: MO-203-AA; Code_IPC: SOT353-5; ComponentLink1Description: LMV321 Datasheet; ComponentLink1URL: http://www.national.com/ds/LM/LMV321.pdf; ComponentLink2Description: LMV321 Web Page; ComponentLink2URL: http://www.national.com/pf/LM/LMV321.html; ComponentLink3Description: MAA05A Package Page; ComponentLink3URL: http://www.national.com/packaging/folders/maa05a.html
footprint MAA05A_N (SOT353, 5-Leads, Body 2x1.3mm, Pitch 0.65mm, Lead Span 2.1mm, IPC Medium Density)
footprint MAA05A_L (SOT353, 5-Leads, Body 2x1.3mm, Pitch 0.65mm, Lead Span 2.1mm, IPC High Density)
footprint MAA05A_M (SOT353, 5-Leads, Body 2x1.3mm, Pitch 0.65mm, Lead Span 2.1mm, IPC Low Density)
simulation model LMV321 (SUBCKT)
pins: 1 OUT (out), 2 V- (power), 3 IN+ (in), 4 IN- (in), 5 V+ (power)

## LMV324M
designator U?
General Purpose, Low Voltage, Rail-to-Rail Output Operational Amplifiers; PartNumber: LMV324M; Manufacturer: National Semiconductor; PackageTopMarking: NSUZXYTT*LMV324M; Published: 4-Dec-2008; LatestRevisionDate: 13-Jan-2009; LatestRevisionNote: Sim Model Added.; DatasheetVersion: Oct-2007; PackageVersion: revJ, Jan-1996; PackageReference: M14A; Publisher: Altium Limited; PackageDescription: Molded Package S.O., .150in Wide, 14 Lead; CompType: Amplifiers; RoHS: O; PinCount: 14; DigiKeyPartNumber: LMV324MXCT-ND; Code_JEDEC: MS-012AB; Code_IPC: SOIC127P600-14; ComponentLink1Description: LMV324 Datasheet; ComponentLink1URL: http://www.national.com/ds/LM/LMV324.pdf; ComponentLink2Description: LMV324 Web Page; ComponentLink2URL: http://www.national.com/pf/LM/LMV324.html; ComponentLink3Description: M14A Package Page; ComponentLink3URL: http://www.national.com/packaging/folders/m14a.html
footprint M14A_N (SOIC, 14-Leads, Body 8.6x3.9mm, Pitch 1.27mm, IPC Medium Density)
footprint M14A_L (SOIC, 14-Leads, Body 8.6x3.9mm, Pitch 1.27mm, IPC High Density)
footprint M14A_M (SOIC, 14-Leads, Body 8.6x3.9mm, Pitch 1.27mm, IPC Low Density)
simulation model LMV324 (SUBCKT)
pins on every part: 4 V+ (power), 11 V- (power)
part A pins: 1 OUTA (out), 2 INA- (in), 3 INA+ (in)
part B pins: 5 INB+ (in), 6 INB- (in), 7 OUTB (out)
part C pins: 8 OUTC (out), 9 INC- (in), 10 INC+ (in)
part D pins: 12 IND+ (in), 13 IND- (in), 14 OUTD (out)

## LMV324MT
designator U?
General Purpose, Low Voltage, Rail-to-Rail Output Operational Amplifiers; PartNumber: LMV324MT; Manufacturer: National Semiconductor; PackageTopMarking: NSUZXYTT*LMV324*MT; Published: 4-Dec-2008; LatestRevisionDate: 13-Jan-2009; LatestRevisionNote: Sim Model Added.; DatasheetVersion: Oct-2007; PackageVersion: revD, Jun-2003; PackageReference: MTC14; Publisher: Altium Limited; PackageDescription: Molded TSSOP, JEDEC, 5 x 4.4 x 0.9mm Body, 14 Lead, 0.65mm Pitch; CompType: Amplifiers; RoHS: O; PinCount: 14; DigiKeyPartNumber: LMV324MT-ND; Code_JEDEC: MO-153-AB-1; ComponentLink1Description: LMV324 Datasheet; ComponentLink1URL: http://www.national.com/ds/LM/LMV324.pdf; ComponentLink2Description: LMV324 Web Page; ComponentLink2URL: http://www.national.com/pf/LM/LMV324.html; ComponentLink3Description: MTC14 Package Page; ComponentLink3URL: http://www.national.com/packaging/folders/mtc14.html
footprint MTC14_N (TSOP, 14-Leads, Body 5x4.4mm, Pitch 0.65mm, IPC Medium Density)
footprint MTC14_L (TSOP, 14-Leads, Body 5x4.4mm, Pitch 0.65mm, IPC High Density)
footprint MTC14_M (TSOP, 14-Leads, Body 5x4.4mm, Pitch 0.65mm, IPC Low Density)
simulation model LMV324 (SUBCKT)
pins on every part: 4 V+ (power), 11 V- (power)
part A pins: 1 OUTA (out), 2 INA- (in), 3 INA+ (in)
part B pins: 5 INB+ (in), 6 INB- (in), 7 OUTB (out)
part C pins: 8 OUTC (out), 9 INC- (in), 10 INC+ (in)
part D pins: 12 IND+ (in), 13 IND- (in), 14 OUTD (out)